# EAGLE library part CY62256VNLL-70SNXIT (library ic)
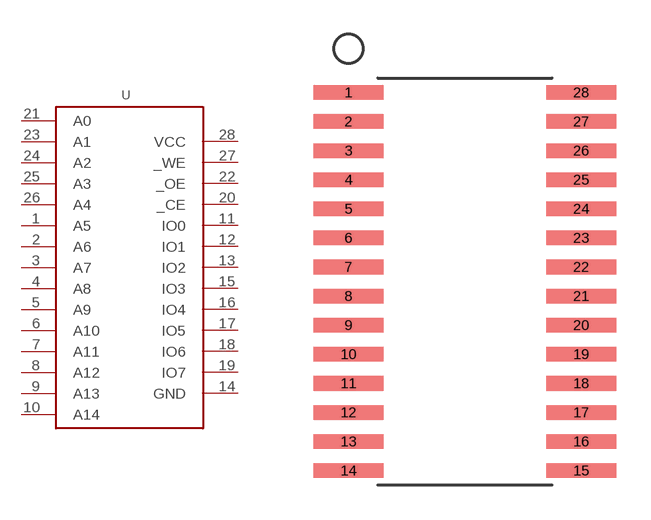
[diagram p2: symbol with the pads of SNC28; footprint SNC28]

Designator prefix U

## CY62256VNLL-70SNXIT  [SNC28]
1  A5
2  A6
3  A7
4  A8
5  A9
6  A10
7  A11
8  A12
9  A13
10  A14
11  IO0
12  IO1
13  IO2
14  GND
15  IO3
16  IO4
17  IO5
18  IO6
19  IO7
20  _CE
21  A0
22  _OE
23  A1
24  A2
25  A3
26  A4
27  _WE
28  VCC

## Footprint SNC28 (pad centres in mm)
smd 3.048 x 0.635: 1 -5.08,8.255; 2 -5.08,6.985; 3 -5.08,5.715; 4 -5.08,4.445; 5 -5.08,3.175; 6 -5.08,1.905; 7 -5.08,0.635; 8 -5.08,-0.635; 9 -5.08,-1.905; 10 -5.08,-3.175; 11 -5.08,-4.445; 12 -5.08,-5.715; 13 -5.08,-6.985; 14 -5.08,-8.255; 15 5.08,-8.255; 16 5.08,-6.985; 17 5.08,-5.715; 18 5.08,-4.445; 19 5.08,-3.175; 20 5.08,-1.905; 21 5.08,-0.635; 22 5.08,0.635; 23 5.08,1.905; 24 5.08,3.175; 25 5.08,4.445; 26 5.08,5.715; 27 5.08,6.985; 28 5.08,8.255